# Altium footprint library HD3.PcbLib: 18 footprints (part 1 of 2)
Each footprint in its own frame and in the unit in brackets; x right, y up, seen from the top. Pads: shape width x height; smd on the part's side, far side on the other; paste and mask are expansions set on the pad; w line width, h text height; cw(c..) or ccw(c..) is an arc to the next point about the centre after c.
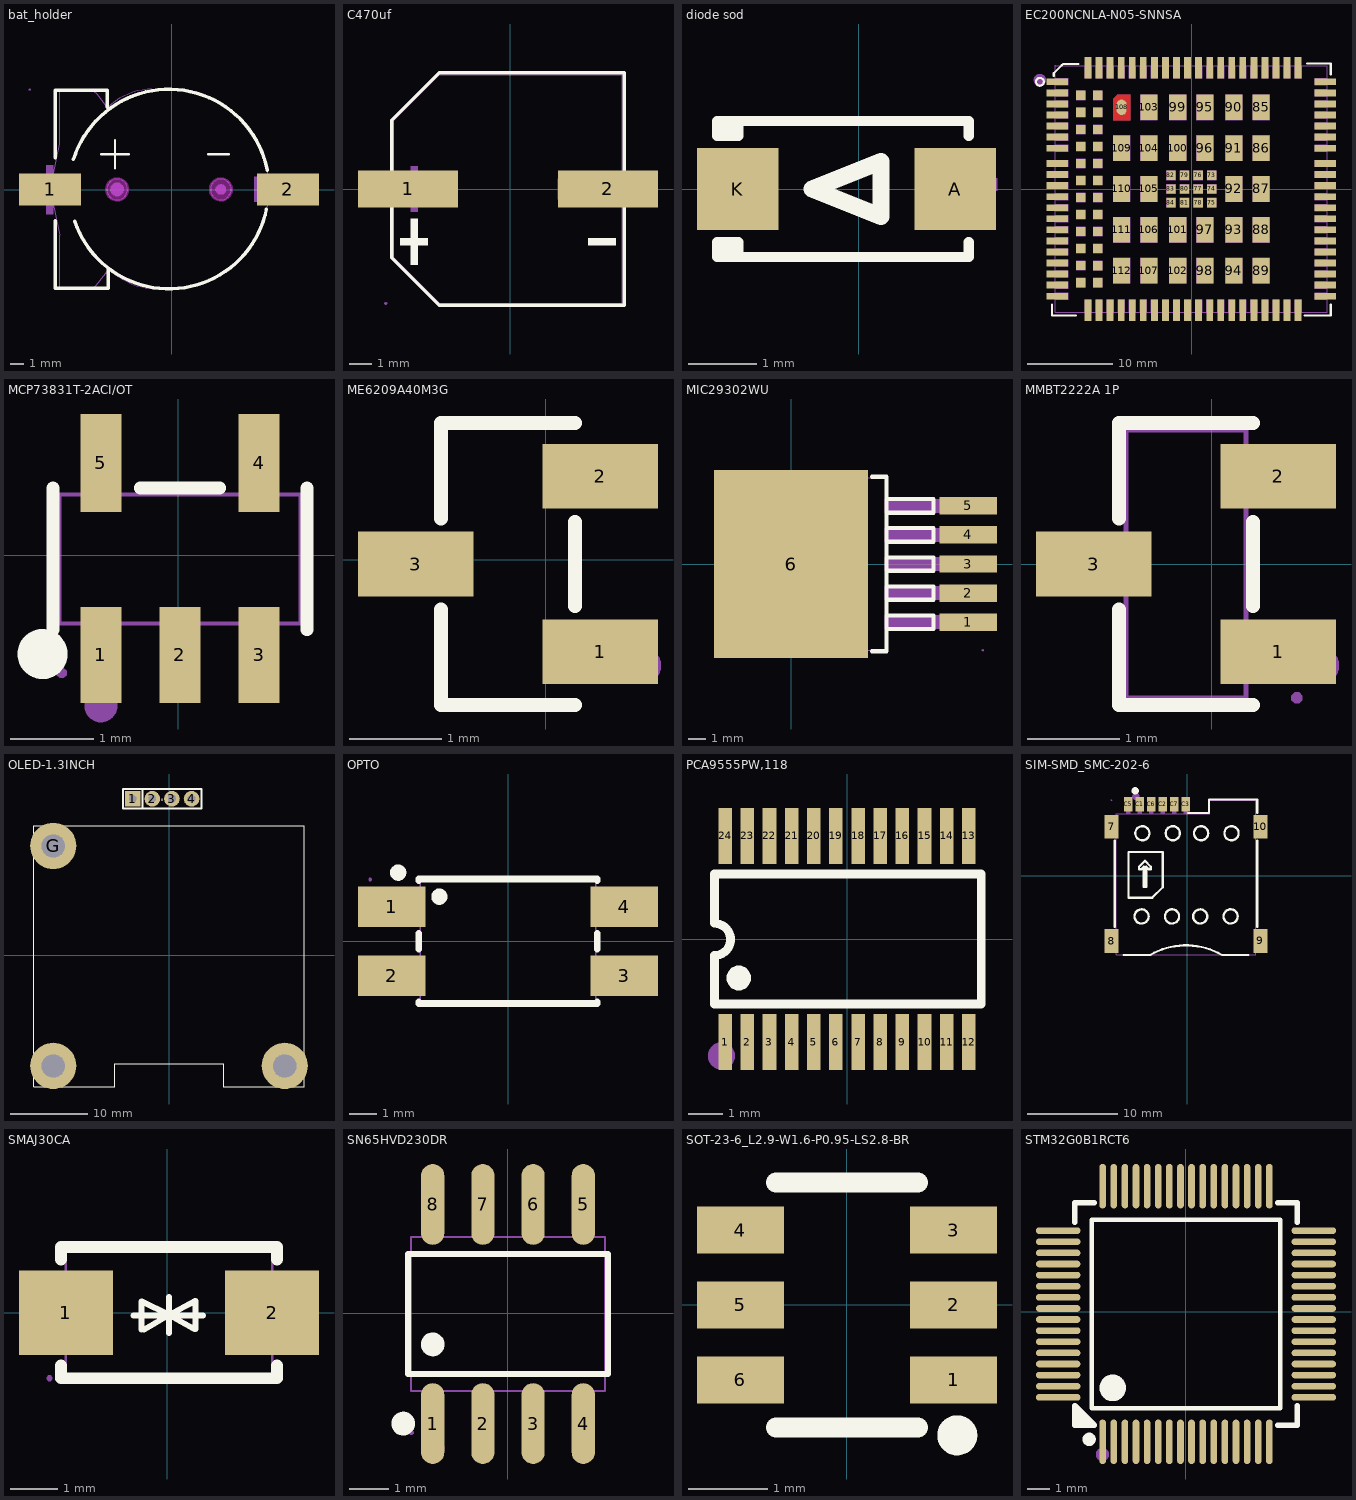
[diagram p0: the footprints below, top view; thin cyan lines are the x and y axes]

## bat_holder [mm]
pads (2):
  rect 4.5x2.3 smd paste+0 mask+0.051: 1(-8.799,0.028) 2(8.401,0.028)
Top Overlay:
  lines w0.152: -5.127,2.568 -3.095,2.568 ; -4.111,1.552 -4.111,3.584 ; 2.62,2.568 4.144,2.568
  lines w0.254: -8.439,-2.232 -8.439,-7.122 -4.599,-7.122 -4.599,-5.678 -4.577,-5.678 ; -8.439,2.328 -8.439,7.198 -5.709,7.198 -4.669,7.198 -4.669,5.978 ; -7.11,2.204 cw(c-0.199,0.028) 6.91,1.428 ; -7.014,-2.269 ccw(c-0.199,0.028) 6.852,-1.39
Keep-Out Layer:
  board cut-out: 4.301,0.028 4.301,0.127 4.25,0.318 4.151,0.489 4.011,0.629 3.84,0.727 3.65,0.779 3.452,0.779 3.261,0.727 3.09,0.629 2.951,0.489 2.852,0.318 2.801,0.127 2.801,0.028 2.801,-0.07 2.852,-0.261 2.951,-0.432 3.09,-0.572 3.261,-0.67 3.452,-0.722 3.65,-0.722 3.84,-0.67 4.011,-0.572 4.151,-0.432 4.25,-0.261 4.301,-0.07
  board cut-out: -3.199,0.028 -3.199,0.127 -3.25,0.318 -3.349,0.489 -3.489,0.629 -3.66,0.727 -3.85,0.779 -4.048,0.779 -4.239,0.727 -4.41,0.629 -4.549,0.489 -4.648,0.318 -4.699,0.127 -4.699,0.028 -4.699,-0.07 -4.648,-0.261 -4.549,-0.432 -4.41,-0.572 -4.239,-0.67 -4.048,-0.722 -3.85,-0.722 -3.66,-0.67 -3.489,-0.572 -3.349,-0.432 -3.25,-0.261 -3.199,-0.07
Mechanical 1:
  circle w0.025: c3.551,0.028 r0.75
  circle w0.025: c-3.949,0.028 r0.75
Mechanical 6:
  drawing of 9 lines, arcs and shapes, not listed
Mechanical 15:
  region: -10.209,7.243 -10.209,7.268 -10.244,7.303 -10.294,7.303 -10.329,7.268 -10.329,7.243 -10.329,7.218 -10.294,7.183 -10.244,7.183 -10.209,7.218
  region: -6.769,-0.872 -10.269,-0.872 -10.269,0.928 -6.769,0.928
  region: 5.971,0.929 9.471,0.929 9.471,-0.871 5.971,-0.871
  lines w0.051: -8.581,-0.988 -8.581,1.044 -8.089,3.328 -8.089,7.178 -5.669,7.178 -5.399,6.908 -4.669,5.948 -4.629,5.948 cw(c-1.431,2.75) -1.431,7.273 -0.118,7.273 cw(c-0.118,0.109) 7.046,0.109 7.046,0.028 cw(c-0.146,0.028) -0.146,-7.164 -0.199,-7.164 -1.042,-7.164 cw(c-1.042,-2.253) -4.514,-5.725 -5.459,-6.902 -5.679,-7.122 -8.089,-7.122 -8.089,-3.272 -8.579,-1.042 -8.581,-0.988
Multi-Layer keep-out:
  circle w0.254: c3.551,0.028 r0.75
  circle w0.254: c-3.949,0.028 r0.75

## C470uf [mm]
pads (2):
  rect 4.5x1.65 smd paste+0 mask+0.051: 1(-4.608,0.019) 2(4.392,0.019)
Top Overlay:
  region: -4.486,-1.32 -4.486,-3.38 -4.177,-3.38 -4.177,-1.32
  region: -4.949,-2.195 -4.949,-2.504 -3.713,-2.504 -3.713,-2.195
  region: 4.733,-2.195 4.733,-2.504 3.497,-2.504 3.497,-2.195
  lines w0.152: -5.334,-0.833 -5.334,-3.071 -3.198,-5.207 5.118,-5.207 5.118,-0.833 ; -5.334,0.872 -5.334,3.109 -3.198,5.245 5.118,5.245 5.118,0.872
Mechanical 6:
  region: -4.486,1.049 -4.486,-1.011 -4.177,-1.011 -4.177,1.049
  region: -4.949,0.174 -4.949,-0.135 -3.713,-0.135 -3.713,0.174
  region: 4.733,0.174 4.733,-0.135 3.497,-0.135 3.497,0.174
Mechanical 15:
  region: -5.548,-5.131 -5.548,-5.106 -5.583,-5.071 -5.633,-5.071 -5.668,-5.106 -5.668,-5.131 -5.668,-5.156 -5.633,-5.191 -5.583,-5.191 -5.548,-5.156
  region: -5.608,0.469 -2.358,0.469 -2.358,-0.431 -5.608,-0.431
  region: 2.142,0.469 5.392,0.469 5.392,-0.431 2.142,-0.431
  lines w0.051: -5.258,-3.071 -3.198,-5.131 5.042,-5.131 5.042,5.169 -3.198,5.169 -5.258,3.109 -5.258,-3.071

## diode sod [mm]
pads (2):
  rect 1.2x1.2 smd paste+0 mask+0.051: A(1.422,0) K(-1.778,0)
Top Overlay:
  lines w0.152: -1.969,-1 -1.969,-0.78 ; -1.969,0.78 -1.969,1 ; -1.869,-1 -1.869,-0.78 ; -1.869,0.78 -1.869,1 ; -1.769,-1 -1.769,-0.78 -2.078,-0.78 -2.078,-1 1.422,-1 1.622,-1 1.622,-0.78 ; -1.769,1 -1.769,0.78 -2.078,0.78 -2.078,1 1.222,1 ; 1.022,1 1.622,1 1.622,0.78
  lines w0.254: -0.686,0 0.33,-0.406 0.33,0.406 -0.686,0
Mechanical 15:
  region: 1.478,-0.436 1.478,0.444 1.658,0.444 1.658,-0.436
  region: 2.038,-0.024 1.158,-0.024 1.158,0.156 2.038,0.156
  region: -1.492,-0.094 -2.372,-0.094 -2.372,0.086 -1.492,0.086

## EC200NCNLA-N05-SNNSA [mm]
pads (144):
  rect 2.5x0.8 smd paste+0 mask+0.05: 1(-15.776,12.606) 2(-15.776,11.306) 3(-15.776,10.006) 4(-15.776,8.706) 5(-15.776,7.406) 6(-15.776,6.106) 7(-15.776,4.806) 8(-15.776,0.406) 9(-15.776,-0.894) 10(-15.776,-2.194) 11(-15.776,-3.494) 12(-15.776,-4.794) 13(-15.776,-6.094) 14(-15.776,-7.394) 15(-15.776,-8.694) 16(-15.776,-9.994) 17(-15.776,-11.294) 18(-15.776,-12.594) 37(15.724,-12.594) 38(15.724,-11.294) 39(15.724,-9.994) 40(15.724,-8.694) 41(15.724,-7.394) 42(15.724,-6.094) 43(15.724,-4.794) 44(15.724,-3.494) 45(15.724,-2.194) 46(15.724,-0.894) 47(15.724,0.406) 48(15.724,4.806) 49(15.724,6.106) 50(15.724,7.406) 51(15.724,8.706) 52(15.724,10.006) 53(15.724,11.306) 54(15.724,12.606) 141(-15.776,3.006) 142(-15.776,1.706) 143(15.724,1.706) 144(15.724,3.006)
  rect 0.8x2.5 smd paste+0 mask+0.05: 19(-9.576,-14.244) 20(-8.276,-14.244) 21(-6.976,-14.244) 22(-5.676,-14.244) 23(-4.376,-14.244) 24(-3.076,-14.244) 25(-1.776,-14.244) 26(-0.477,-14.244) 27(0.823,-14.244) 28(2.124,-14.244) 29(3.424,-14.244) 30(4.724,-14.244) 31(6.024,-14.244) 32(7.324,-14.244) 33(8.624,-14.244) 34(9.924,-14.244) 35(11.223,-14.244) 36(12.523,-14.244) 55(12.523,14.256) 56(11.223,14.256) 57(9.924,14.256) 58(8.624,14.256) 59(7.324,14.256) 60(6.024,14.256) 61(4.724,14.256) 62(3.424,14.256) 63(2.124,14.256) 64(0.823,14.256) 65(-0.477,14.256) 66(-1.776,14.256) 67(-3.076,14.256) 68(-4.376,14.256) 69(-5.676,14.256) 70(-6.976,14.256) 71(-8.276,14.256) 72(-9.576,14.256) 113(-10.876,14.256) 114(-12.177,14.256) 115(-10.876,-14.244) 116(-12.176,-14.244)
  rect 1.1x1.1 smd paste+0 mask+0.05: 73(2.374,1.606) 74(2.374,0.006) 75(2.374,-1.594) 76(0.774,1.606) 77(0.774,0.006) 78(0.774,-1.594) 79(-0.826,1.606) 80(-0.826,0.006) 81(-0.826,-1.594) 82(-2.426,1.606) 83(-2.426,0.006) 84(-2.426,-1.594) 117(-11.026,11.006) 118(-11.026,9.006) 119(-11.026,7.006) 120(-11.026,5.006) 121(-11.026,3.006) 122(-11.026,1.006) 123(-11.026,-0.994) 124(-11.026,-2.994) 125(-11.026,-4.994) 126(-11.026,-6.994) 127(-11.026,-8.994) 128(-11.026,-10.994) 129(-13.026,11.006) 130(-13.026,9.006) 131(-13.026,7.006) 132(-13.026,5.006) 133(-13.026,3.006) 134(-13.026,1.006) 135(-13.026,-0.994) 136(-13.026,-2.994) 137(-13.026,-4.994) 138(-13.026,-6.994) 139(-13.026,-8.994) 140(-13.026,-10.994)
  rect 2x3 smd paste+0 mask+0.05: 85(8.174,9.606) 86(8.174,4.806) 87(8.174,0.006) 88(8.174,-4.794) 89(8.174,-9.594) 90(4.974,9.606) 91(4.974,4.806) 92(4.974,0.006) 93(4.974,-4.794) 94(4.974,-9.594) 95(1.574,9.606) 96(1.574,4.806) 97(1.574,-4.794) 98(1.574,-9.594) 99(-1.626,9.606) 100(-1.626,4.806) 101(-1.626,-4.794) 102(-1.626,-9.594) 103(-5.026,9.606) 104(-5.026,4.806) 105(-5.026,0.006) 106(-5.026,-4.794) 107(-5.026,-9.594) 109(-8.226,4.806) 110(-8.226,0.006) 111(-8.226,-4.794) 112(-8.226,-9.594)
  oval 1.2x1.8 smd: 108(-8.226,9.606)
Top Layer:
  region: -9.226,8.106 -9.226,10.606 -8.726,11.106 -7.226,11.106 -7.226,8.106
Top Overlay:
  circle w0.254: c-17.826,12.606 r0.462
  lines w0.254: -16.409,-13.583 -16.409,-14.853 -13.615,-14.853 ; -16.206,13.306 -16.206,13.606 -15.266,14.546 -15.126,14.686 -13.806,14.686 -13.286,14.686 ; 13.309,-14.853 16.357,-14.853 16.357,-13.583 ; 13.563,14.738 16.357,14.738 16.357,13.468
Mechanical 6:
  circle w0.726: c-17.835,12.819 r0.363
Mechanical 15:
  drawing of 149 lines, arcs and shapes, not listed

## MCP73831T-2ACI/OT [mm]
pads (5):
  rect 0.49x1.157 smd paste+0 mask+0.051: 1(-0.927,-1.196) 2(0.023,-1.196) 3(0.973,-1.196)
  rect 0.49x1.175 smd paste+0 mask+0.051: 4(0.973,1.111) 5(-0.927,1.111)
Top Overlay:
  circle w0.3: c-1.628,-1.185 r0.15
  lines w0.152: -1.503,-0.894 -1.503,0.809 ; -0.453,0.809 0.5,0.809 ; 1.549,-0.894 1.549,0.809
Mechanical 6:
  circle w0.2: c-0.927,-1.805 r0.1
Mechanical 15:
  region: -1.102,-1.442 -1.102,-1.042 -0.752,-1.042 -0.752,-1.442
  region: -1.102,-1.052 -1.102,-0.782 -0.752,-0.782 -0.752,-1.052
  region: -0.152,-1.442 -0.152,-1.042 0.198,-1.042 0.198,-1.442
  region: -0.152,-1.052 -0.152,-0.782 0.198,-0.782 0.198,-1.052
  region: 0.798,-1.442 0.798,-1.042 1.148,-1.042 1.148,-1.442
  region: 0.798,-1.052 0.798,-0.782 1.148,-0.782 1.148,-1.052
  region: 0.798,0.958 0.798,1.358 1.148,1.358 1.148,0.958
  region: 0.798,0.698 0.798,0.968 1.148,0.968 1.148,0.698
  region: -1.102,0.958 -1.102,1.358 -0.752,1.358 -0.752,0.958
  region: -1.102,0.698 -1.102,0.968 -0.752,0.968 -0.752,0.698
  region: -1.337,-1.412 -1.338,-1.388 -1.373,-1.354 -1.422,-1.354 -1.456,-1.388 -1.457,-1.412 -1.456,-1.437 -1.421,-1.471 -1.372,-1.471 -1.338,-1.437
  lines w0.051: -1.427,-0.817 -1.427,0.733 1.473,0.733 1.473,-0.817 -1.427,-0.817

## ME6209A40M3G [mm]
pads (3):
  rect 1.25x0.7 smd paste+0 mask+0.051: 1(0.593,-0.999) 2(0.593,0.901) 3(-1.407,-0.049)
Top Overlay:
  lines w0.152: -1.133,-0.543 -1.133,-1.575 0.319,-1.575 ; -1.133,0.446 -1.133,1.478 0.319,1.478 ; 0.319,-0.504 0.319,0.407
Mechanical 15:
  circle w0.2: c1.053,-1.149 r0.1

## MIC29302WU [mm]
pads (6):
  rect 3.359x1.02 smd paste+0 mask+0.051: 1(10.367,-3.4) 2(10.367,-1.7) 3(10.367,0) 4(10.367,1.7) 5(10.367,3.4)
  rect 9x11 smd paste+0 mask+0.051: 6(0,0)
Top Overlay:
  lines w0.254: 4.731,-5.1 5.583,-5.1 5.583,5.1 4.731,5.1 ; 5.583,-2.997 8.332,-3.016 8.332,-3.801 5.584,-3.801 ; 5.583,-1.297 8.333,-1.316 8.333,-2.101 5.584,-2.101 ; 5.583,0.403 8.333,0.384 8.333,-0.401 5.584,-0.401 ; 5.583,2.103 8.333,2.084 8.333,1.299 5.584,1.299 ; 5.583,3.803 8.333,3.784 8.333,2.999 5.584,2.999
Mechanical 6:
  circle w0.4: c11.533,-3.429 r0.2
  circle w0.4: c11.533,-3.429 r0.2
Mechanical 15:
  region: 8.833,-3 8.833,-3.8 5.483,-3.8 5.483,-3
  region: 8.833,-1.3 8.833,-2.1 5.483,-2.1 5.483,-1.3
  region: 8.833,0.4 8.833,-0.4 5.483,-0.4 5.483,0.4
  region: 8.834,2.1 8.834,1.3 5.484,1.3 5.484,2.1
  region: 8.833,3.8 8.833,3 5.483,3 5.483,3.8
  region: 8.824,3.8 11.224,3.8 11.224,3 8.824,3
  region: 8.824,2.1 11.224,2.1 11.224,1.3 8.824,1.3
  region: 8.824,0.4 11.224,0.4 11.224,-0.4 8.824,-0.4
  region: 8.824,-1.3 11.224,-1.3 11.224,-2.1 8.824,-2.1
  region: 8.824,-3 11.224,-3 11.224,-3.8 8.824,-3.8
  region: -3.985,5.05 3.985,5.05 3.985,-5.05 -3.985,-5.05
  region: 11.284,-5.05 11.284,-5.025 11.249,-4.99 11.199,-4.99 11.164,-5.025 11.164,-5.05 11.164,-5.075 11.199,-5.11 11.248,-5.11 11.284,-5.075
  lines w0.051: -3.167,-5.05 5.533,-5.05 5.533,5.05 -3.167,5.05 -3.167,-5.05

## MMBT2222A 1P [mm]
pads (3):
  rect 1.25x0.7 smd paste+0 mask+0.051: 1(0.72,-0.948) 2(0.72,0.952) 3(-1.28,0.002)
Top Overlay:
  lines w0.152: -1.006,-0.492 -1.006,-1.524 0.446,-1.524 ; -1.006,0.497 -1.006,1.528 0.446,1.528 ; 0.446,-0.453 0.446,0.458
Mechanical 6:
  circle w0.2: c1.18,-1.098 r0.1
Mechanical 15:
  region: 0.98,-1.448 0.979,-1.423 0.944,-1.389 0.896,-1.389 0.861,-1.423 0.86,-1.448 0.861,-1.472 0.896,-1.506 0.944,-1.506 0.979,-1.472
  region: 0.36,0.737 0.36,1.167 0.63,1.167 0.63,0.737
  region: 0.62,0.737 0.62,1.167 0.92,1.167 0.92,0.737
  region: 0.36,-1.163 0.36,-0.733 0.63,-0.733 0.63,-1.163
  region: 0.62,-1.163 0.62,-0.733 0.92,-0.733 0.92,-1.163
  region: -1.19,-0.213 -1.19,0.217 -0.92,0.217 -0.92,-0.213
  region: -1.48,-0.213 -1.48,0.217 -1.18,0.217 -1.18,-0.213
  lines w0.051: -0.93,-1.448 -0.93,1.452 0.37,1.452 0.37,-1.448 -0.93,-1.448

## OLED-1.3INCH [mm]
pads (7):
  rect 2.032x2.032 hole 1: 1(-4.699,20.242)
  round 2.032 hole 1: 2(-2.159,20.242) 3(0.381,20.242) 4(2.921,20.242)
  round 6 hole 3 mask+0.05: G(-15,14.138) ""(-15,-14.362) ""(15,-14.362)
Top Overlay:
  lines w0.127: -0.889,19.98 -0.889,20.242 ; -17.5,-17.1 -17.5,16.72 17.5,16.72 17.5,-17.1 7,-17.1 7,-14.1 -7,-14.1 -7,-17.1 -17.5,-17.1
  lines w0.254: -3.429,18.972 -3.429,21.512 ; -5.969,18.972 -5.969,21.512 4.191,21.512 4.191,18.972 -5.969,18.972

## OPTO [mm]
pads (4):
  rect 2.5x1.5 smd: 1(-4.3,1.27) 2(-4.3,-1.27) 3(4.3,-1.27) 4(4.3,1.27)
Top Overlay:
  circle w0.3: c-4.064,2.54 r0.15
  circle w0.3: c-2.54,1.651 r0.15
  lines w0.254: -3.3,-2.251 -3.3,-2.3 3.3,-2.3 3.3,-2.251 ; -3.3,-0.289 -3.3,0.289 ; -3.3,2.251 -3.3,2.3 3.3,2.3 3.3,2.251 ; 3.3,-0.289 3.3,0.289
Mechanical 6:
  circle w0.6: c-4.572,1.27 r0.3
Mechanical 15:
  region: -5.04,2.29 -5.04,2.315 -5.075,2.35 -5.125,2.35 -5.16,2.315 -5.16,2.29 -5.16,2.265 -5.125,2.23 -5.075,2.23 -5.04,2.265
  region: 4.1,-1.87 4.1,-0.67 5.1,-0.67 5.1,-1.87
  region: 4.1,0.67 4.1,1.87 5.1,1.87 5.1,0.67
  region: 3.15,0.67 3.15,1.87 4.11,1.87 4.11,0.67
  region: -4.1,1.87 -4.1,0.67 -5.1,0.67 -5.1,1.87
  region: -4.1,-0.67 -4.1,-1.87 -5.1,-1.87 -5.1,-0.67
  region: 3.15,-1.87 3.15,-0.67 4.11,-0.67 4.11,-1.87
  region: -3.15,1.87 -3.15,0.67 -4.11,0.67 -4.11,1.87
  region: -3.15,-0.67 -3.15,-1.87 -4.11,-1.87 -4.11,-0.67
  lines w0.051: -3.25,-2.29 3.25,-2.29 3.25,2.29 -3.25,2.29 -3.25,-2.29

## PCA9555PW,118 [mm] "16bit io expander"
pads (24):
  rect 0.4x1.65 smd paste+0 mask+0.051: 1(-3.575,-3.023) 2(-2.925,-3.023) 3(-2.275,-3.023) 4(-1.625,-3.023) 5(-0.975,-3.023) 6(-0.325,-3.023) 7(0.325,-3.023) 8(0.975,-3.023) 9(1.625,-3.023) 10(2.275,-3.023) 11(2.925,-3.023) 12(3.575,-3.023) 13(3.575,3.023) 14(2.925,3.023) 15(2.275,3.023) 16(1.625,3.023) 17(0.975,3.023) 18(0.325,3.023) 19(-0.325,3.023) 20(-0.975,3.023) 21(-1.625,3.023) 22(-2.275,3.023) 23(-2.925,3.023) 24(-3.575,3.023)
Top Overlay:
  region: -3.529,-1.143 -3.529,-1.073 -3.475,-0.942 -3.376,-0.843 -3.245,-0.789 -3.105,-0.789 -2.974,-0.843 -2.875,-0.942 -2.821,-1.073 -2.821,-1.143 -2.821,-1.213 -2.875,-1.344 -2.974,-1.443 -3.105,-1.497 -3.245,-1.497 -3.376,-1.443 -3.475,-1.344 -3.529,-1.213
  lines w0.254: -3.886,0.457 cw(c-3.886,-0.013) -3.886,-0.483 -3.886,-1.753 -3.886,-1.905 3.937,-1.905 3.937,1.905 -3.886,1.905 -3.886,1.753 -3.886,0.483
Mechanical 15:
  circle w0.4: c-3.683,-3.429 r0.2

## SIM-SMD_SMC-202-6 [mm]
pads (10):
  rect 1.56x2.61 smd paste+0 mask+0.051: 7(-8.364,5.392) 8(-8.364,-7.226) 9(8.086,-7.22) 10(8.086,5.403)
  rect 0.9x1.6 smd paste+0 mask+0.051: C1(-5.244,7.86) C2(-2.704,7.86) C3(-0.164,7.86) C5(-6.514,7.86) C6(-3.974,7.86) C7(-1.434,7.86)
Top Overlay:
  circle w0.4: c-5.749,9.357 r0.2
  circle w0.254: c4.786,-4.509 r0.78
  circle w0.254: c1.429,-4.513 r0.78
  circle w0.254: c-1.691,-4.51 r0.78
  circle w0.254: c-5.048,-4.513 r0.78
  circle w0.254: c4.879,4.673 r0.78
  circle w0.254: c1.522,4.669 r0.78
  circle w0.254: c-1.597,4.672 r0.78
  circle w0.254: c-4.955,4.669 r0.78
  lines w0.254: -7.997,-5.69 -7.997,3.856 ; -7.017,-8.763 -4.097,-8.763 cw(c-0.132,-15.634) 3.833,-8.763 ; 0.111,6.897 2.411,6.897 2.411,8.387 7.733,8.387 7.733,6.939 ; 3.834,-8.763 6.739,-8.763 ; 7.733,-5.683 7.733,3.867 7.733,3.51 ; -6.479,-2.459 -6.479,2.611 -2.709,2.611 -2.709,-1.289 -3.879,-2.459 -6.479,-2.459 ; -5.322,0.712 -5.06,0.712 -4.801,0.973 -4.801,-1.237 -4.54,-1.237 -4.54,0.973 -4.281,0.712 -4.021,0.712 -4.021,0.973 -4.672,1.623 -5.322,0.973 -5.322,0.712
Mechanical 6:
  circle w0.4: c-5.679,8.747 r0.2
Mechanical 15:
  region: -8.369,4.392 -8.369,6.392 -7.669,6.392 -7.669,4.392
  region: -8.369,-8.226 -8.369,-6.226 -7.669,-6.226 -7.669,-8.226
  region: 7.391,-8.22 7.391,-6.22 8.091,-6.22 8.091,-8.22
  region: 7.391,4.403 7.391,6.403 8.091,6.403 8.091,4.403
  region: -6.739,6.787 -6.739,7.387 -6.289,7.387 -6.289,6.787
  region: -5.469,6.787 -5.469,7.387 -5.019,7.387 -5.019,6.787
  region: -4.199,6.787 -4.199,7.387 -3.749,7.387 -3.749,6.787
  region: -2.929,6.787 -2.929,7.387 -2.479,7.387 -2.479,6.787
  region: -1.659,6.787 -1.659,7.387 -1.209,7.387 -1.209,6.787
  region: -0.389,6.787 -0.389,7.387 0.061,7.387 0.061,6.787
  region: -5.469,8.097 -5.019,8.097 -5.019,7.297 -5.469,7.297
  region: -2.929,8.097 -2.479,8.097 -2.479,7.297 -2.929,7.297
  region: -0.389,8.097 0.061,8.097 0.061,7.297 -0.389,7.297
  region: -4.199,8.097 -3.749,8.097 -3.749,7.297 -4.199,7.297
  region: -6.739,8.097 -6.289,8.097 -6.289,7.297 -6.739,7.297
  region: -1.659,8.097 -1.209,8.097 -1.209,7.297 -1.659,7.297
  region: -8.309,8.337 -8.31,8.361 -8.344,8.395 -8.393,8.395 -8.428,8.361 -8.429,8.337 -8.428,8.313 -8.393,8.279 -8.345,8.279 -8.31,8.313
  lines w0.051: -7.839,-8.753 -7.829,-8.763 7.561,-8.753 7.561,8.337 2.461,8.337 2.461,6.847 -7.829,6.847 -7.839,6.837 -7.839,-8.753

## SMAJ30CA [mm]
pads (2):
  rect 2x1.8 smd paste+0 mask+0.051: 1(-2.159,0) 2(2.241,0)
Top Overlay:
  lines w0.127: -0.719,-0.06 0.771,-0.06 ; -0.549,-0.36 -0.549,0.24 0.039,-0.049 ; -0.489,-0.36 0.039,-0.049 ; 0.039,-0.43 0.039,-0.049 ; 0.039,0.332 0.039,-0.049 ; 0.581,-0.35 0.039,-0.049 ; 0.611,-0.35 0.611,0.25 0.039,-0.049
  lines w0.254: -2.259,-1.131 -2.259,-1.4 2.341,-1.4 2.341,-1.131 ; -2.259,1.131 -2.259,1.4 2.341,1.4 2.341,1.131
Mechanical 15:
  region: -2.449,-1.4 -2.45,-1.376 -2.485,-1.341 -2.533,-1.341 -2.568,-1.376 -2.569,-1.4 -2.568,-1.425 -2.533,-1.459 -2.485,-1.459 -2.45,-1.425
  region: -2.509,-0.725 -2.509,0.725 -1.424,0.725 -1.424,-0.725
  region: 2.591,0.725 2.591,-0.725 1.506,-0.725 1.506,0.725
  lines w0.051: -2.159,-1.4 -2.159,1.4 2.241,1.4 2.241,-1.4 -2.159,-1.4

## SN65HVD230DR [mm]
pads (8):
  oval 0.588x2.045 smd paste+0 mask+0.051: 1(-1.897,-2.787) 2(-0.627,-2.787) 3(0.643,-2.787) 4(1.913,-2.787) 5(1.913,2.757) 6(0.643,2.757) 7(-0.627,2.757) 8(-1.897,2.757)
Top Overlay:
  circle w0.3: c-1.897,-0.784 r0.15
  circle w0.3: c-2.644,-2.787 r0.15
  lines w0.152: -2.519,-1.536 -2.519,1.506 2.534,1.506 2.534,-1.536 -2.519,-1.536
Mechanical 6:
  circle w0.3: c-1.897,-3.415 r0.15
Mechanical 15:
  region: -2.382,-3.015 -2.383,-2.991 -2.418,-2.956 -2.467,-2.956 -2.502,-2.991 -2.502,-3.015 -2.502,-3.039 -2.467,-3.074 -2.418,-3.074 -2.383,-3.04
  region: -2.107,-3.015 -2.107,-2.18 -1.687,-2.18 -1.687,-3.015
  region: -2.107,-2.19 -2.107,-1.955 -1.687,-1.955 -1.687,-2.19
  region: -0.837,-3.015 -0.837,-2.18 -0.417,-2.18 -0.417,-3.015
  region: -0.837,-2.19 -0.837,-1.955 -0.417,-1.955 -0.417,-2.19
  region: 0.433,-3.015 0.433,-2.18 0.853,-2.18 0.853,-3.015
  region: 0.433,-2.19 0.433,-1.955 0.853,-1.955 0.853,-2.19
  region: 1.703,-3.015 1.703,-2.18 2.123,-2.18 2.123,-3.015
  region: 1.703,-2.19 1.703,-1.955 2.123,-1.955 2.123,-2.19
  region: -2.107,2.985 -2.107,2.15 -1.687,2.15 -1.687,2.985
  region: -2.107,2.16 -2.107,1.925 -1.687,1.925 -1.687,2.16
  region: -0.837,2.985 -0.837,2.15 -0.417,2.15 -0.417,2.985
  region: -0.837,2.16 -0.837,1.925 -0.417,1.925 -0.417,2.16
  region: 0.433,2.985 0.433,2.15 0.853,2.15 0.853,2.985
  region: 0.433,2.16 0.433,1.925 0.853,1.925 0.853,2.16
  region: 1.703,2.985 1.703,2.15 2.123,2.15 2.123,2.985
  region: 1.703,2.16 1.703,1.925 2.123,1.925 2.123,2.16
  lines w0.051: -2.442,-1.965 -2.442,1.935 2.458,1.935 2.458,-1.965 -2.442,-1.965

## SOT-23-6_L2.9-W1.6-P0.95-LS2.8-BR [mm]
pads (6):
  rect 1.1x0.6 smd paste+0 mask+0.051: 1(1.35,-0.95) 2(1.35,0) 3(1.35,0.95) 4(-1.35,0.95) 5(-1.35,0) 6(-1.35,-0.95)
Top Overlay:
  circle w0.254: c1.397,-1.651 r0.127
  lines w0.254: -0.9,-1.55 0.9,-1.55 ; -0.9,1.55 0.9,1.55
Mechanical 15:
  circle w0.2: c1.4,-0.95 r0.1

## STM32G0B1RCT6 [mm]
pads (64):
  oval 0.3x2 smd paste+0 mask+0.051: 1(-3.731,-5.858) 2(-3.231,-5.858) 3(-2.731,-5.858) 4(-2.231,-5.858) 5(-1.731,-5.858) 6(-1.231,-5.858) 7(-0.731,-5.858) 8(-0.231,-5.858) 9(0.269,-5.858) 10(0.769,-5.858) 11(1.269,-5.858) 12(1.769,-5.858) 13(2.269,-5.858) 14(2.769,-5.858) 15(3.269,-5.858) 16(3.769,-5.858) 33(3.769,5.642) 34(3.269,5.642) 35(2.769,5.642) 36(2.269,5.642) 37(1.769,5.642) 38(1.269,5.642) 39(0.769,5.642) 40(0.269,5.642) 41(-0.231,5.642) 42(-0.731,5.642) 43(-1.231,5.642) 44(-1.731,5.642) 45(-2.231,5.642) 46(-2.731,5.642) 47(-3.231,5.642) 48(-3.731,5.642)
  oval 2x0.3 smd paste+0 mask+0.051: 17(5.769,-3.858) 18(5.769,-3.358) 19(5.769,-2.858) 20(5.769,-2.358) 21(5.769,-1.858) 22(5.769,-1.358) 23(5.769,-0.858) 24(5.769,-0.358) 25(5.769,0.142) 26(5.769,0.642) 27(5.769,1.142) 28(5.769,1.642) 29(5.769,2.142) 30(5.769,2.642) 31(5.769,3.142) 32(5.769,3.642) 49(-5.731,3.642) 50(-5.731,3.142) 51(-5.731,2.642) 52(-5.731,2.142) 53(-5.731,1.642) 54(-5.731,1.142) 55(-5.731,0.642) 56(-5.731,0.142) 57(-5.731,-0.358) 58(-5.731,-0.858) 59(-5.731,-1.358) 60(-5.731,-1.858) 61(-5.731,-2.358) 62(-5.731,-2.858) 63(-5.731,-3.358) 64(-5.731,-3.858)
Top Overlay:
  region: -4.112,-5.108 -4.981,-4.239 -4.981,-5.108
  lines w0.2: -4.231,-4.358 -4.231,4.142 4.269,4.142 4.269,-4.358 -4.231,-4.358
  lines w0.254: -4.981,4.023 -4.981,4.892 -4.112,4.892 ; 4.15,-5.108 5.019,-5.108 5.019,-4.239 ; 4.15,4.892 5.019,4.892 5.019,4.023 ; -4.981,-4.239 -4.981,-4.239 ; -4.981,-4.239 -4.112,-5.108 -4.981,-5.108 -4.981,-4.239
  lines w0.3: -4.342,-5.598 ccw(c-4.341,-5.748) -4.34,-5.598
  lines w0.6: -3.281,-3.133 ccw(c-3.278,-3.433) -3.275,-3.133
Mechanical 15:
  circle w0.3: c-3.741,-6.428 r0.15